# EAGLE library part MID400 (library sprinkler_timer)
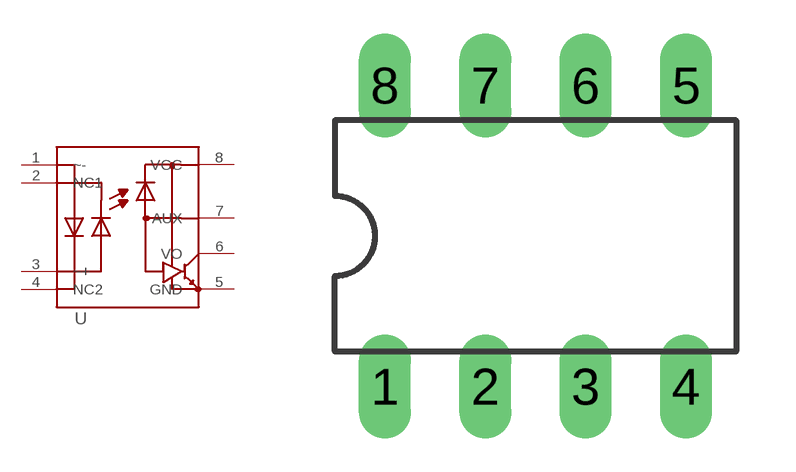
[diagram p0: symbol with the pads of DIL08; footprint DIL08]

Designator prefix -

## MID400  [DIL08]
1  ~-
2  NC1  nc
3  ~+
4  NC2  nc
5  GND  pwr
6  VO
7  AUX
8  VCC  pwr

## Footprint DIL08 (pad centres in mm)
Dual In Line Package
drill 0.813 long: 1 -3.81,-3.81; 2 -1.27,-3.81; 3 1.27,-3.81; 4 3.81,-3.81; 5 3.81,3.81; 6 1.27,3.81; 7 -1.27,3.81; 8 -3.81,3.81